# Altium footprint library msop.PcbLib: 7 footprints
Each footprint in its own frame and in the unit in brackets; x right, y up, seen from the top. Pads: shape width x height; smd on the part's side, far side on the other; paste and mask are expansions set on the pad; w line width, h text height; cw(c..) or ccw(c..) is an arc to the next point about the centre after c.
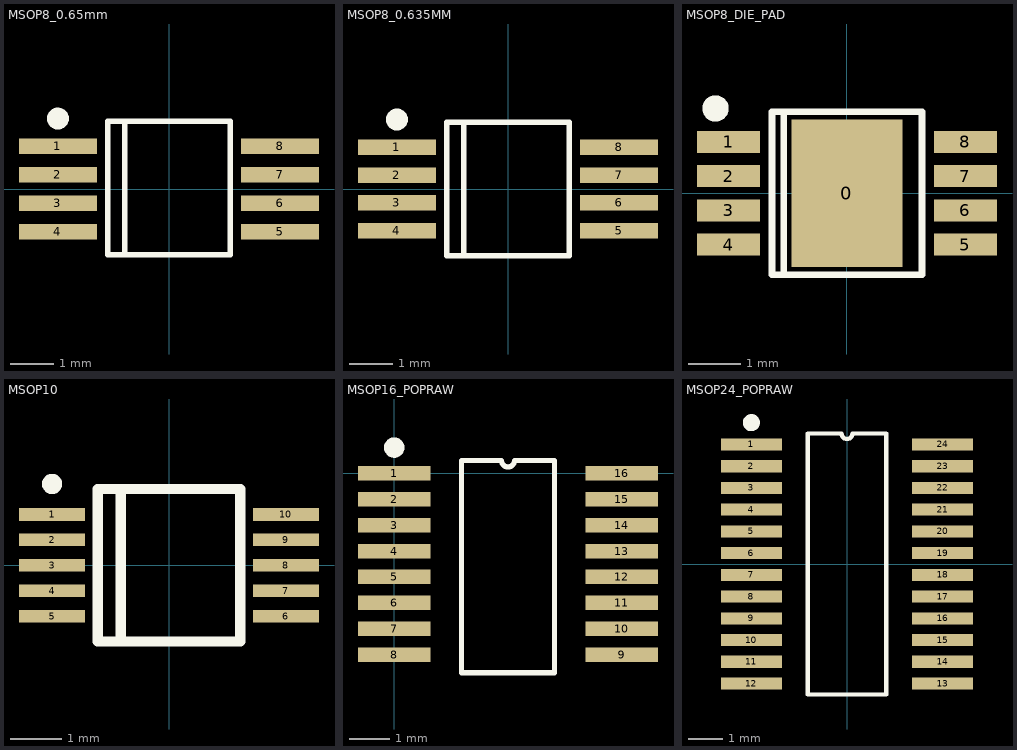
[diagram p0: the footprints below, top view; thin cyan lines are the x and y axes]

## MSOP8_0.65mm [mil] "0.65mm PITCH MSOP8"
pads (8):
  rect 70x14 smd: 1(-100,38.39) 2(-100,12.8) 3(-100,-12.8) 4(-100,-38.39) 5(100,-38.39) 6(100,-12.8) 7(100,12.8) 8(100,38.39)
Top Overlay:
  circle w9.84: c-99.92,63.39 r4.92
  lines w5: -40,-59.11 -40,60.89 ; -55,-59.11 -55,60.89 55,60.89 55,-59.11 -55,-59.11
3D body "User Library-msop-8.step": height 45.28, standoff 0, extent -96.45,-59.05 96.46,59.06

## MSOP8_0.635MM [mil] "0.635mm PITCH MSOP8"
pads (8):
  rect 70x14 smd: 1(-100,37.5) 2(-100,12.5) 3(-100,-12.5) 4(-100,-37.5) 5(100,-37.5) 6(100,-12.5) 7(100,12.5) 8(100,37.5)
Top Overlay:
  circle w9.84: c-99.92,62.5 r4.92
  lines w5: -40,-60 -40,60 ; -55,-60 -55,60 55,60 55,-60 -55,-60
3D body "User Library-msop-8.step": height 45.28, standoff 0, extent -96.45,-59.05 96.47,59.06

## MSOP8_DIE_PAD [mm] "8-Lead Plastic MSOP, Exposed Die Pad"
height 1.1
pads (9):
  rect 2.1x2.8 smd: 0(0,0)
  rect 1.2x0.42 smd: 1(-2.25,0.975) 2(-2.25,0.325) 3(-2.25,-0.325) 4(-2.25,-0.975) 5(2.25,-0.975) 6(2.25,-0.325) 7(2.25,0.325) 8(2.25,0.975)
Top Overlay:
  circle w0.25: c-2.498,1.61 r0.125
  lines w0.127: -1.201,-1.501 -1.201,1.547 ; -1.425,-1.55 -1.425,1.55 1.425,1.55 1.425,-1.55 -1.425,-1.55
3D body "User Library-msop-8.step": height 1.15, standoff 0, extent -2.45,-1.5 2.45,1.5

## MSOP10 [mm]
pads (10):
  rect 1.3x0.25 smd mask+0.1: 1(-2.3,1) 2(-2.3,0.5) 3(-2.3,0) 4(-2.3,-0.5) 5(-2.3,-1) 6(2.3,-1) 7(2.3,-0.5) 8(2.3,0) 9(2.3,0.5) 10(2.3,1)
Top Overlay:
  circle w0.2: c-2.3,1.6 r0.1
  lines w0.2: -0.95,-1.5 -0.95,1.45 ; -1.4,-1.5 1.4,-1.5 1.4,1.5 -1.4,1.5 -1.4,-1.5
3D body "User Library-msop-10.step": height 1.15, standoff 0, extent -2.45,-1.5 2.45,1.5

## MSOP12 [mil]
3D body "User Library-msop-12.step": height 43.31, standoff 0, extent -96.46,-79.52 96.46,79.53

## MSOP16_POPRAW [mil]
pads (16):
  rect 70x14 smd: 1(0,0) 2(0,-25) 3(0,-50) 4(0,-75) 5(0,-100) 6(0,-125) 7(0,-150) 8(0,-175) 9(220,-175) 10(220,-150) 11(220,-125) 12(220,-100) 13(220,-75) 14(220,-50) 15(220,-25) 16(220,0)
Top Overlay:
  circle w9.84: c0,25.04 r4.92
  lines w5: 65,-192.62 155,-192.62 155,12.5 116.25,12.5 cw(c110,12.5) 103.75,12.5 65,12.5 65,-192.62
3D body "User Library-MSOP-16.step": height 37.8, standoff 3.94, extent 13.55,-164.51 206.46,-5.5

## MSOP24_POPRAW [mil]
pads (24):
  rect 70x14 smd: 1(-110,137.5) 2(-110,112.5) 3(-110,87.5) 4(-110,62.5) 5(-110,37.5) 6(-110,12.5) 7(-110,-12.5) 8(-110,-37.5) 9(-110,-62.5) 10(-110,-87.5) 11(-110,-112.5) 12(-110,-137.5) 13(110,-137.5) 14(110,-112.5) 15(110,-87.5) 16(110,-62.5) 17(110,-37.5) 18(110,-12.5) 19(110,12.5) 20(110,37.5) 21(110,62.5) 22(110,87.5) 23(110,112.5) 24(110,137.5)
Top Overlay:
  circle w9.84: c-110,162.54 r4.92
  lines w5: -45,-150 45,-150 45,150 6.25,150 cw(c0,150) -6.25,150 -45,150 -45,-150